# EAGLE library part AS5304 (library micromouse)
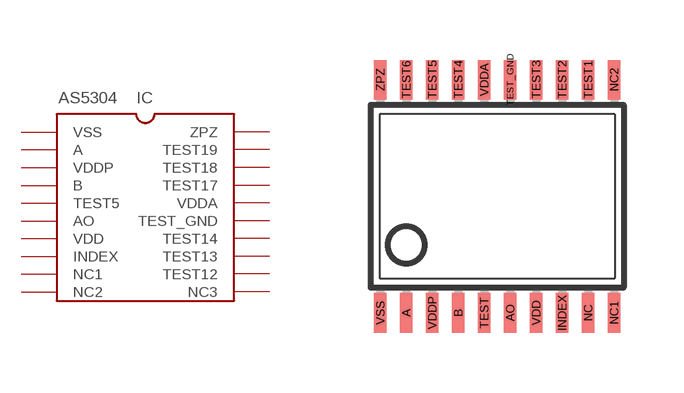
[diagram p8: symbol with the pads of TSSOP20; footprint TSSOP20]

Designator prefix IC

## AS5304  [TSSOP20]
A  A
AO  AO
B  B
INDEX  INDEX
NC  NC1
NC1  NC2
NC2  NC3
TEST  TEST5
TEST1  TEST12
TEST2  TEST13
TEST3  TEST14
TEST4  TEST17
TEST5  TEST18
TEST6  TEST19
TEST_GND  TEST_GND
VDD  VDD
VDDA  VDDA
VDDP  VDDP
VSS  VSS
ZPZ  ZPZ

## Footprint TSSOP20 (pad centres in mm)
smd 0.305 x 0.991: A -2.275,-2.918; AO 0.325,-2.918; B -0.975,-2.918; INDEX 1.625,-2.918; NC 2.275,-2.918; NC1 2.925,-2.918; NC2 2.925,2.918; TEST -0.325,-2.918; TEST1 2.275,2.918; TEST2 1.625,2.918; TEST3 0.975,2.918; TEST4 -0.975,2.918; TEST5 -1.625,2.918; TEST6 -2.275,2.918; TEST_GND 0.325,2.918; VDD 0.975,-2.918; VDDA -0.325,2.918; VDDP -1.625,-2.918; VSS -2.925,-2.918; ZPZ -2.925,2.918